# Altium footprint library SAMTEC_QSE-020-01-F-D-A.PcbLib: 1 footprints
Each footprint in its own frame and in the unit in brackets; x right, y up, seen from the top. Pads: shape width x height; smd on the part's side, far side on the other; paste and mask are expansions set on the pad; w line width, h text height; cw(c..) or ccw(c..) is an arc to the next point about the centre after c.
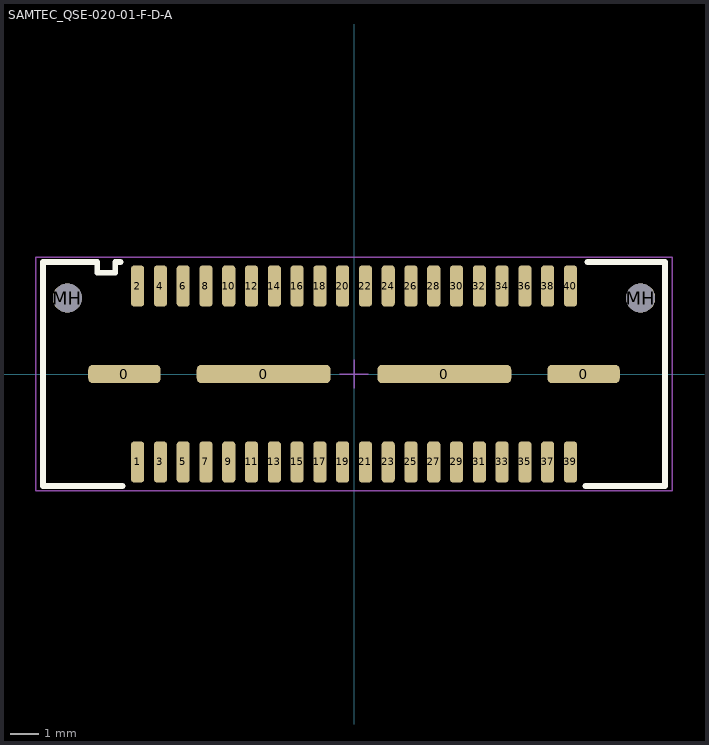
[diagram p0: the footprint, top view; thin cyan lines are the x and y axes]

## SAMTEC_QSE-020-01-F-D-A [mm]
pads (46):
  rrect50% 2.54x0.64 smd paste+0: 0(-8.064,0) 0(8.064,0)
  rrect50% 4.699x0.64 smd paste+0: 0(-3.175,0) 0(3.175,0)
  rrect50% 0.46x1.45 smd paste+0: 1(-7.6,-3.09) 2(-7.6,3.09) 3(-6.8,-3.09) 4(-6.8,3.09) 5(-5.999,-3.09) 6(-5.999,3.09) 7(-5.199,-3.09) 8(-5.199,3.09) 9(-4.399,-3.09) 10(-4.399,3.09) 11(-3.599,-3.09) 12(-3.599,3.09) 13(-2.799,-3.09) 14(-2.799,3.09) 15(-1.999,-3.09) 16(-1.999,3.09) 17(-1.199,-3.09) 18(-1.199,3.09) 19(-0.399,-3.09) 20(-0.399,3.09) 21(0.401,-3.09) 22(0.401,3.09) 23(1.201,-3.09) 24(1.201,3.09) 25(2.002,-3.09) 26(2.002,3.09) 27(2.802,-3.09) 28(2.802,3.09) 29(3.602,-3.09) 30(3.602,3.09) 31(4.402,-3.09) 32(4.402,3.09) 33(5.202,-3.09) 34(5.202,3.09) 35(6.002,-3.09) 36(6.002,3.09) 37(6.802,-3.09) 38(6.802,3.09) 39(7.602,-3.09) 40(7.602,3.09)
  round 1.02 hole 1.02 unplated paste-2539.97: MH(-10.071,2.667) MH(10.071,2.667)
Top Overlay:
  lines w0.2: -8.2,3.937 -8.382,3.937 -8.382,3.556 -9.017,3.556 -9.017,3.937 -10.922,3.937 -10.922,-3.937 -8.128,-3.937 ; 8.128,-3.937 10.922,-3.937 10.922,3.937 8.2,3.937
Mechanical 15:
  lines w0.05: -0.508,0 0.508,0 ; 0,-0.508 0,0.508 ; -11.176,-4.1 -11.176,4.1 11.176,4.1 11.176,-4.1 -11.176,-4.1
3D body "QSE-020-01-F-D-A.stp": height 3.26, standoff -0.76, extent -10.643,-3.746 10.643,3.746